# Altium schematic symbol library B330B-13-F.SCHLIB: 1 symbol
Pins are listed as number, name and electrical type; pins without a type are passive.

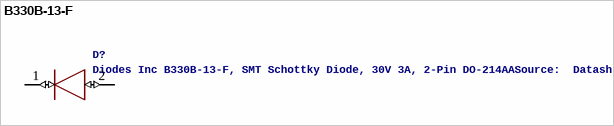
[diagram p0: symbol B330B-13-F]

## B330B-13-F
designator D?, comment Diodes Inc B330B-13-F, SMT Schottky Diode, 30V 3A, 2-Pin DO-214AASource:  Datasheet
Manufacturer_Name: Diodes Inc.; GateName_1: G$1; SymbolName_1: B330B-13-F; LibraryName: B330B-13-F; DeviceSetName: B330B-13-F; Package: DIOM5336X250N; Manufacturer_Part_Number: B330B-13-F; RS_Part_Number: 9228339; RS_Price-Stock: http://uk.rs-online.com/web/p/products/9228339; Arrow_Part_Number: B330B-13-F; Arrow_Price-Stock: https://www.arrow.com/en/products/b330b-13-f/diodes-incorporated; Description: Diodes Inc B330B-13-F, SMT Schottky Diode, 30V 3A, 2-Pin DO-214AA; Height: 2.5mm
footprint DIOM5336X250N
pins: 1 K (io), 2 A (io)